# Altium footprint library TimeDrive.PcbLib: 7 footprints
Each footprint in its own frame and in the unit in brackets; x right, y up, seen from the top. Pads: shape width x height; smd on the part's side, far side on the other; paste and mask are expansions set on the pad; w line width, h text height; cw(c..) or ccw(c..) is an arc to the next point about the centre after c.
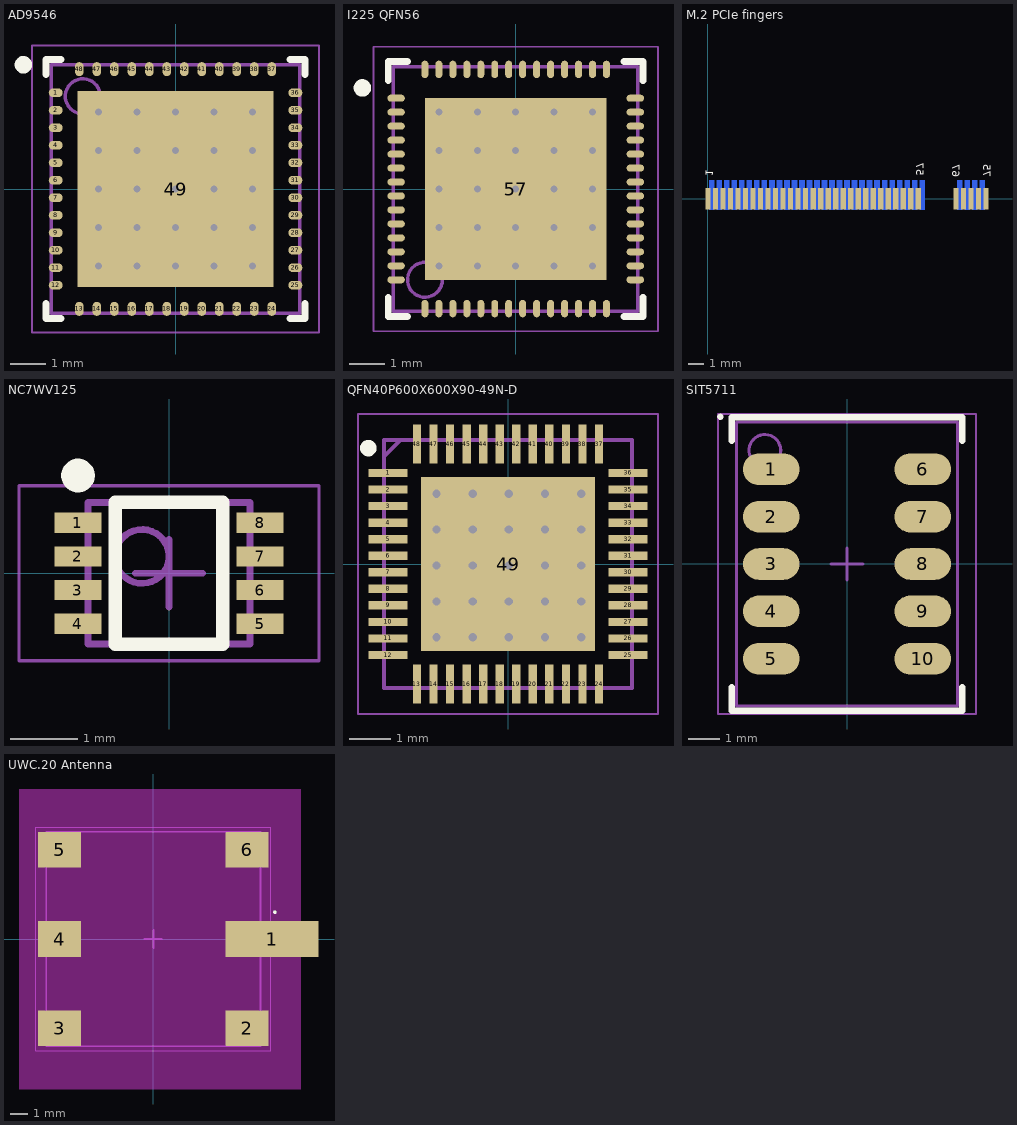
[diagram p0: the footprints below, top view; thin cyan lines are the x and y axes]

## AD9546 [mm] "QFN, 48-Leads, Body 7.00x7.00mm, Pitch 0.50mm, Thermal Pad 5.60x5.60mm, IPC Medium Density"
height 0.8
pads (49):
  oval 0.4x0.25 smd: 1(-3.425,2.75) 2(-3.425,2.25) 3(-3.425,1.75) 4(-3.425,1.25) 5(-3.425,0.75) 6(-3.425,0.25) 7(-3.425,-0.25) 8(-3.425,-0.75) 9(-3.425,-1.25) 10(-3.425,-1.75) 11(-3.425,-2.25) 12(-3.425,-2.75) 25(3.425,-2.75) 26(3.425,-2.25) 27(3.425,-1.75) 28(3.425,-1.25) 29(3.425,-0.75) 30(3.425,-0.25) 31(3.425,0.25) 32(3.425,0.75) 33(3.425,1.25) 34(3.425,1.75) 35(3.425,2.25) 36(3.425,2.75)
  oval 0.25x0.4 smd: 13(-2.75,-3.425) 14(-2.25,-3.425) 15(-1.75,-3.425) 16(-1.25,-3.425) 17(-0.75,-3.425) 18(-0.25,-3.425) 19(0.25,-3.425) 20(0.75,-3.425) 21(1.25,-3.425) 22(1.75,-3.425) 23(2.25,-3.425) 24(2.75,-3.425) 37(2.75,3.425) 38(2.25,3.425) 39(1.75,3.425) 40(1.25,3.425) 41(0.75,3.425) 42(0.25,3.425) 43(-0.25,3.425) 44(-0.75,3.425) 45(-1.25,3.425) 46(-1.75,3.425) 47(-2.25,3.425) 48(-2.75,3.425)
  rect 5.6x5.6 smd: 49(0,0)
via 2.2,-2.2 diameter 0.5 hole 0.2
via 1.1,-2.2 diameter 0.5 hole 0.2
via 0,-2.2 diameter 0.5 hole 0.2
via -1.1,-2.2 diameter 0.5 hole 0.2
via -2.2,-2.2 diameter 0.5 hole 0.2
via 2.2,-1.1 diameter 0.5 hole 0.2
via 1.1,-1.1 diameter 0.5 hole 0.2
via 0,-1.1 diameter 0.5 hole 0.2
via -1.1,-1.1 diameter 0.5 hole 0.2
via -2.2,-1.1 diameter 0.5 hole 0.2
via 2.2,0 diameter 0.5 hole 0.2
via 1.1,0 diameter 0.5 hole 0.2
via 0,0 diameter 0.5 hole 0.2
via -1.1,0 diameter 0.5 hole 0.2
via -2.2,0 diameter 0.5 hole 0.2
via 2.2,1.1 diameter 0.5 hole 0.2
via 1.1,1.1 diameter 0.5 hole 0.2
via 0,1.1 diameter 0.5 hole 0.2
via -1.1,1.1 diameter 0.5 hole 0.2
via -2.2,1.1 diameter 0.5 hole 0.2
via 2.2,2.2 diameter 0.5 hole 0.2
via 1.1,2.2 diameter 0.5 hole 0.2
via 0,2.2 diameter 0.5 hole 0.2
via -1.1,2.2 diameter 0.5 hole 0.2
via -2.2,2.2 diameter 0.5 hole 0.2
Top Overlay:
  circle w0.25: c-4.35,3.55 r0.125
  lines w0.2: -3.7,-3.275 -3.7,-3.7 -3.275,-3.7 ; -3.7,3.275 -3.7,3.7 -3.275,3.7 ; 3.275,-3.7 3.7,-3.7 3.7,-3.275 ; 3.275,3.7 3.7,3.7 3.7,3.275
Mechanical 13:
  circle w0.1: c-2.65,2.65 r0.5
  lines w0.1: -3.55,-3.55 3.55,-3.55 3.55,3.55 -3.55,3.55 -3.55,-3.55
Mechanical 15:
  lines w0.05: -4.1,-4.1 4.1,-4.1 4.1,4.1 -4.1,4.1 -4.1,-4.1
  lines w0.1: -0.5,0 0.5,0 ; 0,-0.5 0,0.5
3D body: height 0.8, standoff 0.05, extent -3.55,-3.55 3.55,3.55

## I225 QFN56 [mm]
height 0.9
pads (57):
  oval 0.5x0.2 smd: 1(-3.425,2.6) 2(-3.425,2.2) 3(-3.425,1.8) 4(-3.425,1.4) 5(-3.425,1) 6(-3.425,0.6) 7(-3.425,0.2) 8(-3.425,-0.2) 9(-3.425,-0.6) 10(-3.425,-1) 11(-3.425,-1.4) 12(-3.425,-1.8) 13(-3.425,-2.2) 14(-3.425,-2.6) 29(3.425,-2.6) 30(3.425,-2.2) 31(3.425,-1.8) 32(3.425,-1.4) 33(3.425,-1) 34(3.425,-0.6) 35(3.425,-0.2) 36(3.425,0.2) 37(3.425,0.6) 38(3.425,1) 39(3.425,1.4) 40(3.425,1.8) 41(3.425,2.2) 42(3.425,2.6)
  oval 0.2x0.5 smd: 15(-2.6,-3.425) 16(-2.2,-3.425) 17(-1.8,-3.425) 18(-1.4,-3.425) 19(-1,-3.425) 20(-0.6,-3.425) 21(-0.2,-3.425) 22(0.2,-3.425) 23(0.6,-3.425) 24(1,-3.425) 25(1.4,-3.425) 26(1.8,-3.425) 27(2.2,-3.425) 28(2.6,-3.425) 43(2.6,3.425) 44(2.2,3.425) 45(1.8,3.425) 46(1.4,3.425) 47(1,3.425) 48(0.6,3.425) 49(0.2,3.425) 50(-0.2,3.425) 51(-0.6,3.425) 52(-1,3.425) 53(-1.4,3.425) 54(-1.8,3.425) 55(-2.2,3.425) 56(-2.6,3.425)
  rect 5.2x5.2 smd: 57(0,0)
via -2.2,2.2 diameter 0.5 hole 0.2
via -1.1,2.2 diameter 0.5 hole 0.2
via 0,2.2 diameter 0.5 hole 0.2
via 1.1,2.2 diameter 0.5 hole 0.2
via 2.2,2.2 diameter 0.5 hole 0.2
via -2.2,1.1 diameter 0.5 hole 0.2
via -1.1,1.1 diameter 0.5 hole 0.2
via 0,1.1 diameter 0.5 hole 0.2
via 1.1,1.1 diameter 0.5 hole 0.2
via 2.2,1.1 diameter 0.5 hole 0.2
via -2.2,0 diameter 0.5 hole 0.2
via -1.1,0 diameter 0.5 hole 0.2
via 0,0 diameter 0.5 hole 0.2
via 1.1,0 diameter 0.5 hole 0.2
via 2.2,0 diameter 0.5 hole 0.2
via -2.2,-1.1 diameter 0.5 hole 0.2
via -1.1,-1.1 diameter 0.5 hole 0.2
via 0,-1.1 diameter 0.5 hole 0.2
via 1.1,-1.1 diameter 0.5 hole 0.2
via 2.2,-1.1 diameter 0.5 hole 0.2
via -2.2,-2.2 diameter 0.5 hole 0.2
via -1.1,-2.2 diameter 0.5 hole 0.2
via 0,-2.2 diameter 0.5 hole 0.2
via 1.1,-2.2 diameter 0.5 hole 0.2
via 2.2,-2.2 diameter 0.5 hole 0.2
Top Overlay:
  circle w0.25: c-4.391,2.894 r0.125
  lines w0.2: -3.65,-3.1 -3.65,-3.65 -3.1,-3.65 ; -3.65,3.1 -3.65,3.65 -3.1,3.65 ; 3.1,-3.65 3.65,-3.65 3.65,-3.1 ; 3.1,3.65 3.65,3.65 3.65,3.1
Mechanical 13:
  circle w0.1: c-2.6,-2.6 r0.5
  lines w0.1: -3.5,-3.5 -3.5,3.5 3.5,3.5 3.5,-3.5 -3.5,-3.5
Mechanical 15:
  lines w0.05: -4.075,-4.075 -4.075,4.075 4.075,4.075 4.075,-4.075 -4.075,-4.075
  lines w0.1: -0.5,0 0.5,0 ; 0,-0.5 0,0.5
3D body: height 0.9, standoff 0.05, extent -3.5,-3.5 3.5,3.5

## M.2 PCIe fingers [mm]
pads (67):
  rect 0.35x1.45 smd: 1(0,0) 3(0.5,0) 5(1,0) 7(1.5,0) 9(2,0) 11(2.5,0) 13(3,0) 15(3.5,0) 17(4,0) 19(4.5,0) 21(5,0) 23(5.5,0) 25(6,0) 27(6.5,0) 29(7,0) 31(7.5,0) 33(8,0) 35(8.5,0) 37(9,0) 39(9.5,0) 41(10,0) 43(10.5,0) 45(11,0) 47(11.5,0) 49(12,0) 51(12.5,0) 53(13,0) 55(13.5,0) 57(14,0) 67(16.5,0) 69(17,0) 71(17.5,0) 73(18,0) 75(18.5,0)
  rect 0.35x1.95 smd far side: 2(0.256,0.25) 4(0.756,0.25) 6(1.256,0.25) 8(1.756,0.25) 10(2.256,0.25) 12(2.756,0.25) 14(3.256,0.25) 16(3.756,0.25) 18(4.256,0.25) 20(4.756,0.25) 22(5.256,0.25) 24(5.756,0.25) 26(6.256,0.25) 28(6.756,0.25) 30(7.256,0.25) 32(7.756,0.25) 34(8.256,0.25) 36(8.756,0.25) 38(9.256,0.25) 40(9.756,0.25) 42(10.256,0.25) 44(10.756,0.25) 46(11.256,0.25) 48(11.756,0.25) 50(12.256,0.25) 52(12.756,0.25) 54(13.256,0.25) 56(13.756,0.25) 58(14.256,0.25) 68(16.756,0.25) 70(17.256,0.25) 72(17.756,0.25) 74(18.256,0.25)
Top Overlay:
  text "75" at 18.311,1.45 h0.5
  text "67" at 16.249,1.446 h0.5
  text "57" at 13.855,1.533 h0.5
  text "1" at -0.159,1.517 h0.5
Bottom Overlay:
  text "74" at 18.139,1.454 h0.5
  text "68" at 16.265,1.486 h0.5
  text "58" at 14.076,1.45 h0.5
  text "2" at -0.016,1.4 h0.5

## NC7WV125 [mm] "TSSOP, 8-Leads, Body 2.00x2.30mm, Pitch 0.50mm, IPC Medium Density"
height 0.9
pads (8):
  rect 0.7x0.3 smd: 1(-1.35,0.75) 2(-1.35,0.25) 3(-1.35,-0.25) 4(-1.35,-0.75) 5(1.35,-0.75) 6(1.35,-0.25) 7(1.35,0.25) 8(1.35,0.75)
Top Overlay:
  circle w0.25: c-1.35,1.45 r0.125
  lines w0.2: -0.8,-1.05 0.8,-1.05 0.8,1.05 -0.8,1.05 -0.8,-1.05
Mechanical 13:
  circle w0.1: c-0.4,0.25 r0.4
  lines w0.1: -1.2,-1.05 1.2,-1.05 1.2,1.05 -1.2,1.05 -1.2,-1.05
Mechanical 15:
  lines w0.05: -2.225,-1.3 2.225,-1.3 2.225,1.3 -2.225,1.3 -2.225,-1.3
  lines w0.1: -0.5,0 0.5,0 ; 0,-0.5 0,0.5
3D body: height 0.9, standoff 0.1, extent -1.2,-1.05 1.2,1.05

## QFN40P600X600X90-49N-D [mm]
pads (49):
  rect 0.95x0.2 smd: 1(-2.9,2.2) 2(-2.9,1.8) 3(-2.9,1.4) 4(-2.9,1) 5(-2.9,0.6) 6(-2.9,0.2) 7(-2.9,-0.2) 8(-2.9,-0.6) 9(-2.9,-1) 10(-2.9,-1.4) 11(-2.9,-1.8) 12(-2.9,-2.2) 25(2.9,-2.2) 26(2.9,-1.8) 27(2.9,-1.4) 28(2.9,-1) 29(2.9,-0.6) 30(2.9,-0.2) 31(2.9,0.2) 32(2.9,0.6) 33(2.9,1) 34(2.9,1.4) 35(2.9,1.8) 36(2.9,2.2)
  rect 0.2x0.95 smd: 13(-2.2,-2.9) 14(-1.8,-2.9) 15(-1.4,-2.9) 16(-1,-2.9) 17(-0.6,-2.9) 18(-0.2,-2.9) 19(0.2,-2.9) 20(0.6,-2.9) 21(1,-2.9) 22(1.4,-2.9) 23(1.8,-2.9) 24(2.2,-2.9) 37(2.2,2.9) 38(1.8,2.9) 39(1.4,2.9) 40(1,2.9) 41(0.6,2.9) 42(0.2,2.9) 43(-0.2,2.9) 44(-0.6,2.9) 45(-1,2.9) 46(-1.4,2.9) 47(-1.8,2.9) 48(-2.2,2.9)
  rect 4.2x4.2 smd: 49(0,0)
via -0.855,1.7 diameter 0.5 hole 0.2
via -0.855,0.832 diameter 0.5 hole 0.2
via -0.855,-0.036 diameter 0.5 hole 0.2
via -0.855,-0.904 diameter 0.5 hole 0.2
via -0.855,-1.771 diameter 0.5 hole 0.2
via -1.73,1.7 diameter 0.5 hole 0.2
via 0.02,1.7 diameter 0.5 hole 0.2
via 0.895,1.7 diameter 0.5 hole 0.2
via 1.77,1.7 diameter 0.5 hole 0.2
via -1.73,0.832 diameter 0.5 hole 0.2
via 0.02,0.832 diameter 0.5 hole 0.2
via 0.895,0.832 diameter 0.5 hole 0.2
via 1.77,0.832 diameter 0.5 hole 0.2
via -1.73,-0.036 diameter 0.5 hole 0.2
via 0.02,-0.036 diameter 0.5 hole 0.2
via 0.895,-0.036 diameter 0.5 hole 0.2
via 1.77,-0.036 diameter 0.5 hole 0.2
via 0.02,-0.904 diameter 0.5 hole 0.2
via 0.895,-0.904 diameter 0.5 hole 0.2
via 1.77,-0.904 diameter 0.5 hole 0.2
via -1.73,-1.771 diameter 0.5 hole 0.2
via 0.02,-1.771 diameter 0.5 hole 0.2
via 0.895,-1.771 diameter 0.5 hole 0.2
via 1.77,-1.771 diameter 0.5 hole 0.2
via -1.73,-0.904 diameter 0.5 hole 0.2
Top Overlay:
  circle w0.2: c-3.375,2.8 r0.1
Top Courtyard:
  lines w0.05: -3.625,-3.625 3.625,-3.625 3.625,3.625 -3.625,3.625 -3.625,-3.625
Top 3D Body:
  lines w0.1: -3,2.6 -2.6,3 ; -3,-3 3,-3 3,3 -3,3 -3,-3
3D body "DW1000-I-TR13.stp": height 0.9, standoff 0, extent -3.05,-3.05 3.05,3.05

## SIT5711 [mm]
height 6.2
pads (10):
  oval 1.8x1 smd: 1(-2.4,3) 2(-2.4,1.5) 3(-2.4,0) 4(-2.4,-1.5) 5(-2.4,-3) 6(2.4,3) 7(2.4,1.5) 8(2.4,0) 9(2.4,-1.5) 10(2.4,-3)
Top Overlay:
  circle w0.1: c-4.01,4.662 r0.05
  lines w0.2: -3.65,-3.9 -3.65,-4.65 3.65,-4.65 3.65,-3.9 ; -3.65,3.9 -3.65,4.65 3.65,4.65 3.65,3.9
Mechanical 13:
  circle w0.1: c-2.6,3.6 r0.5
  lines w0.1: -3.5,-4.5 3.5,-4.5 3.5,4.5 -3.5,4.5 -3.5,-4.5
Mechanical 15:
  lines w0.05: -4.085,-4.75 4.085,-4.75 4.085,4.75 -4.085,4.75 -4.085,-4.75
  lines w0.1: -0.5,0 0.5,0 ; 0,-0.5 0,0.5
3D body: height 6.2, standoff 0, extent -3.5,-4.5 3.5,4.5

## UWC.20 Antenna [mm] "SON, 6-Leads, Body 12.00x12.00mm, Pitch 5.00mm, IPC Medium Density"
height 3
pads (6):
  rect 5.2x2 smd paste-0.2: 1(6.65,0)
  rect 2.4x2 smd paste-0.2: 2(5.25,-5) 3(-5.25,-5) 4(-5.25,0) 5(-5.25,5) 6(5.25,5)
Top Overlay:
  circle w0.1: c6.8,1.5 r0.05
Keep-Out Layer:
  region: -7.5,8.4 8.25,8.4 8.25,-8.4 -7.5,-8.4
Mechanical 13:
  circle w0.1: c-5.1,5.1 r0.5
  lines w0.1: -6,-6 -6,6 6,6 6,-6 -6,-6
Mechanical 15:
  lines w0.05: -6.585,-6.25 -6.585,6.25 6.585,6.25 6.585,-6.25 -6.585,-6.25
  lines w0.1: -0.5,0 0.5,0 ; 0,-0.5 0,0.5
3D body: height 0.25, standoff 0, extent -6,-6 6,6